# Altium integrated library 示波器.IntLib: 54 symbols
Pins are listed as number, name and electrical type; pins without a type are passive.

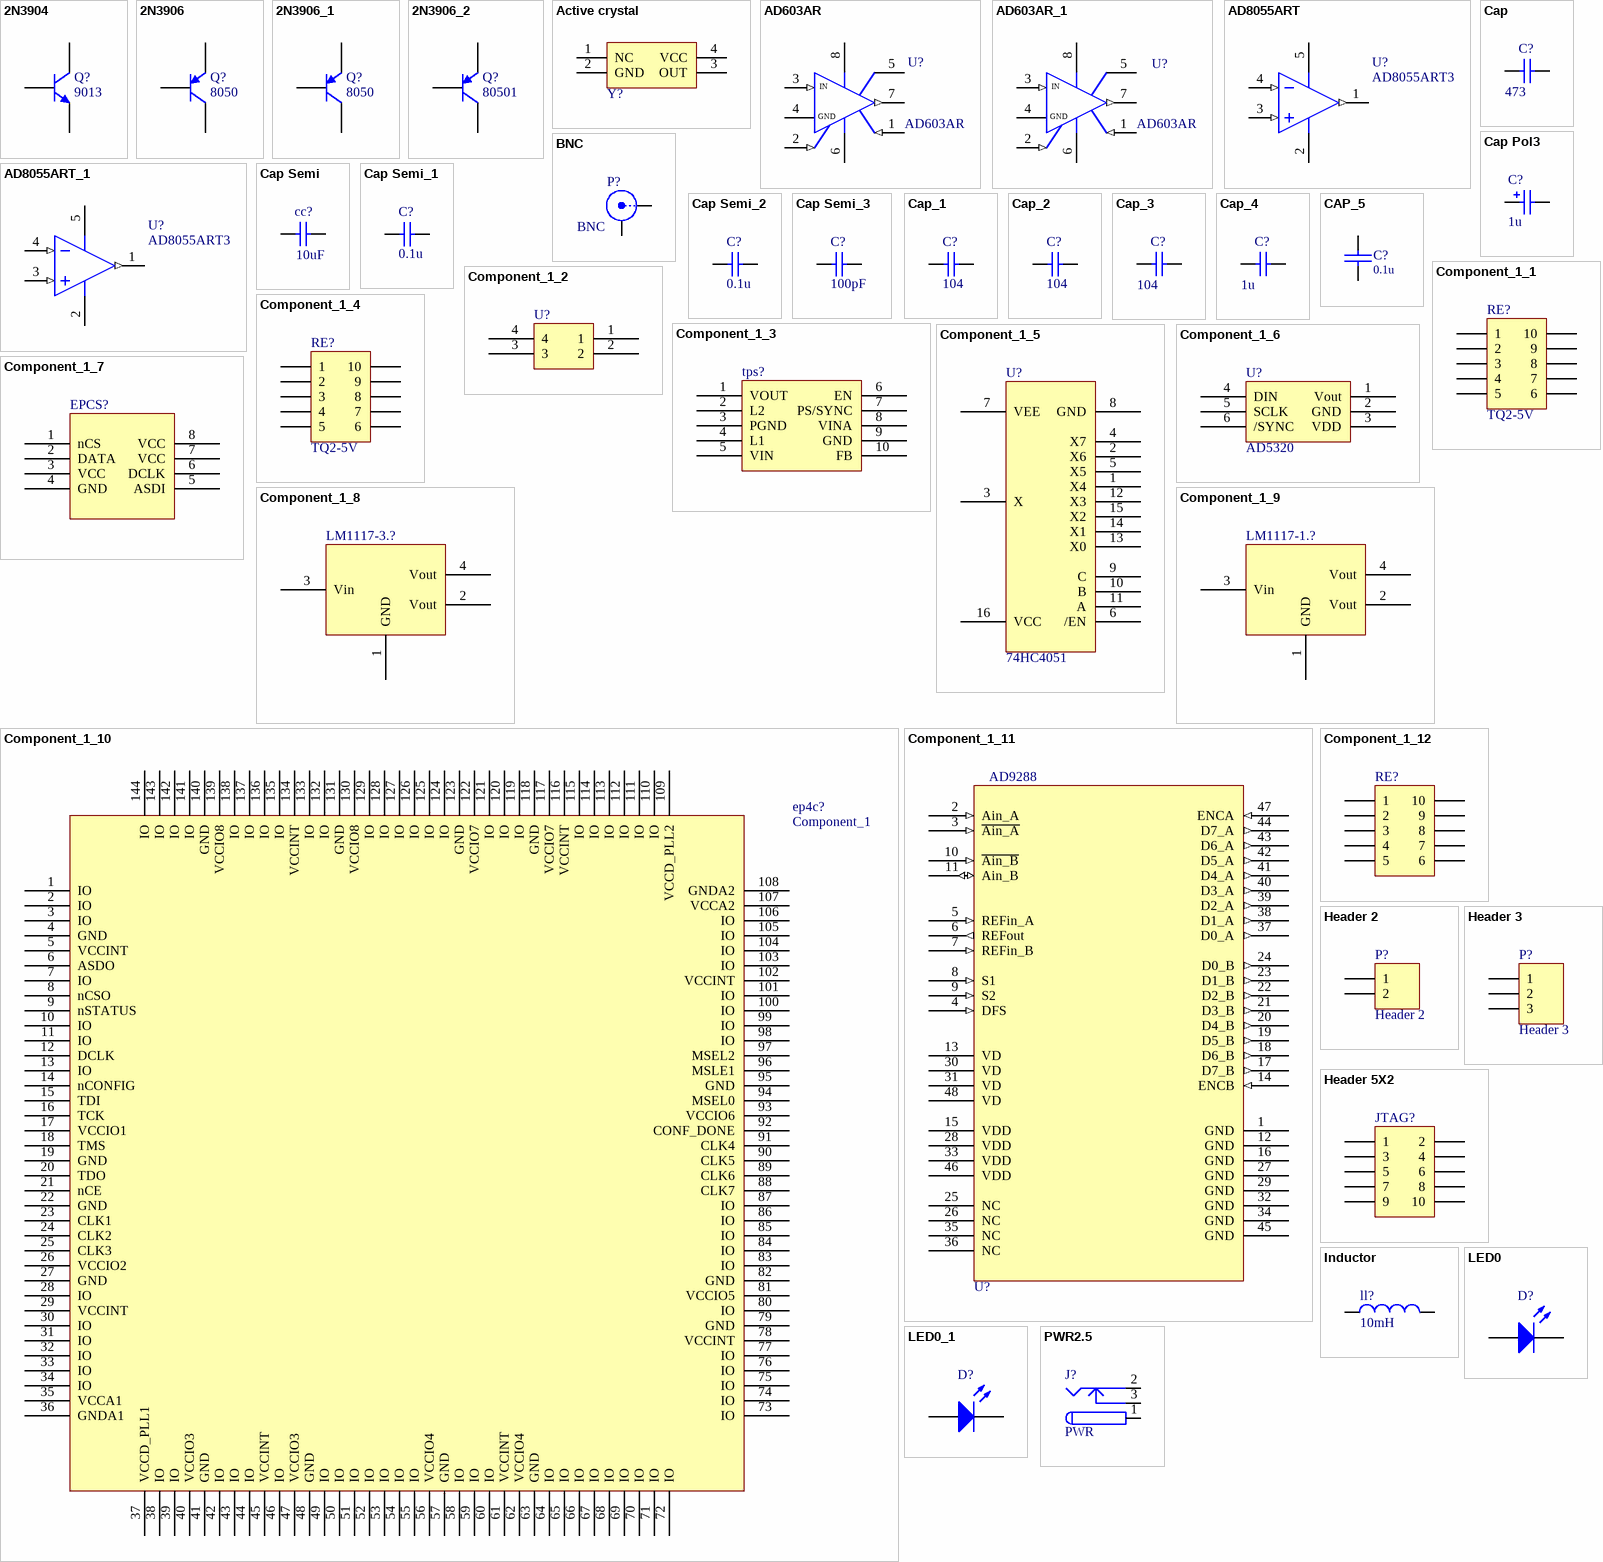
[diagram p0: symbols 2N3904 to PWR2.5]

## 2N3904
designator Q?, comment 9013
NPN General Purpose Amplifier; Published: 8-Jun-2000; LatestRevisionDate: 15-Jan-2003; LatestRevisionNote: PCB Footprint 'BCY-W3/D4.7' replaced; DatasheetDocument: 1997; PackageDocument: Sep-1998; PackageReference: TO-92A; Publisher: Altium Limited; Code_JEDEC: TO-92A; ComponentLink1Description: Manufacturer Link; ComponentLink1URL: http://www.fairchildsemi.com/; ComponentLink2Description: Datasheet; ComponentLink2URL: http://www.fairchildsemi.com/ds/2N%2F2N3904.pdf
footprint PCBComponent_1
footprint PCBComponent_1
pins: 1 E, 2 B, 3 C

## 2N3906
designator Q?, comment 8050
PNP General Purpose Amplifier; Published: 8-Jun-2000; LatestRevisionDate: 15-Jan-2003; LatestRevisionNote: PCB Footprint 'BCY-W3/D4.7' replaced; DatasheetDocument: 1997; PackageDocument: Sep-1998; PackageReference: TO-92A; Publisher: Altium Limited; Code_JEDEC: TO-92A; ComponentLink1Description: Manufacturer Link; ComponentLink1URL: http://www.fairchildsemi.com/; ComponentLink2Description: Datasheet; ComponentLink2URL: http://www.fairchildsemi.com/ds/2N%2F2N3906.pdf
simulation model 2N3906 (PNP)
signal-integrity model 2N3906
footprint PCBComponent_1
pins: 1 E, 2 B, 3 C

## 2N3906_1
designator Q?, comment 8050
PNP General Purpose Amplifier; Published: 8-Jun-2000; LatestRevisionDate: 15-Jan-2003; LatestRevisionNote: PCB Footprint 'BCY-W3/D4.7' replaced; DatasheetDocument: 1997; PackageDocument: Sep-1998; PackageReference: TO-92A; Publisher: Altium Limited; Code_JEDEC: TO-92A; ComponentLink1Description: Manufacturer Link; ComponentLink1URL: http://www.fairchildsemi.com/; ComponentLink2Description: Datasheet; ComponentLink2URL: http://www.fairchildsemi.com/ds/2N%2F2N3906.pdf
simulation model 2N3906 (PNP)
signal-integrity model 2N3906
footprint PCBComponent_1
pins: 1 E, 2 B, 3 C

## 2N3906_2
designator Q?, comment 80501
PNP General Purpose Amplifier; Published: 8-Jun-2000; LatestRevisionDate: 15-Jan-2003; LatestRevisionNote: PCB Footprint 'BCY-W3/D4.7' replaced; DatasheetDocument: 1997; PackageDocument: Sep-1998; PackageReference: TO-92A; Publisher: Altium Limited; Code_JEDEC: TO-92A; ComponentLink1Description: Manufacturer Link; ComponentLink1URL: http://www.fairchildsemi.com/; ComponentLink2Description: Datasheet; ComponentLink2URL: http://www.fairchildsemi.com/ds/2N%2F2N3906.pdf
simulation model 2N3906 (PNP)
signal-integrity model 2N3906
footprint PCBComponent_1
footprint PCBComponent_1
pins: 1 E, 2 B, 3 C

## Active crystal
designator Y?  (value not drawn)
footprint PCBComponent_1
pins: 1 NC, 2 GND, 3 OUT, 4 VCC

## AD603AR
designator U?
Low-Noise, 90MHz Variable Gain Amplifier; Text Field7: Published 8-Jun-2000, Modified 10-July-2000: SIM Model Added.
simulation model AD603A (SUBCKT)
footprint SOIC127P600X175-8N (SOIC, 8-Leads, Body 5.0x4.0mm (max), Pitch 1.27mm, IPC Medium Density)
pins: 1 G+ (in), 2 G- (in), 3 VINP (in), 4 COMM (power), 5 FDBK, 6 V- (power), 7 VOUT (out), 8 V+ (power)
text: IN; GND

## AD603AR_1
designator U?, comment AD603AR
Low-Noise, 90MHz Variable Gain Amplifier; Text Field7: Published 8-Jun-2000, Modified 10-July-2000: SIM Model Added.
footprint SOIC127P600X175-8N (SOIC, 8-Leads, Body 5.0x4.0mm (max), Pitch 1.27mm, IPC Medium Density)
pins: 1 G+ (in), 2 G- (in), 3 VINP (in), 4 COMM (power), 5 FDBK, 6 V- (power), 7 VOUT (out), 8 V+ (power)
text: IN; GND

## AD8055ART
designator U?, comment AD8055ART3
Low Cost, 300MHz Voltage Feedback Amplifier; Text Field7: Published 8-Jun-2000
footprint SOT95P245X110-5N (SOT23, 5-Leads, Body 3.0x2.6mm (max), Pitch 0.95mm, IPC Medium Density)
pins: 1 OUT (out), 2 V- (power), 3 IN+ (in), 4 IN- (in), 5 V+ (power)

## AD8055ART_1
designator U?, comment AD8055ART3
Low Cost, 300MHz Voltage Feedback Amplifier; Text Field7: Published 8-Jun-2000
footprint SOT95P245X110-5N (SOT23, 5-Leads, Body 3.0x2.6mm (max), Pitch 0.95mm, IPC Medium Density)
footprint SOT95P245X110-5N (SOT23, 5-Leads, Body 3.0x2.6mm (max), Pitch 0.95mm, IPC Medium Density)
pins: 1 OUT (out), 2 V- (power), 3 IN+ (in), 4 IN- (in), 5 V+ (power)

## BNC
designator P?
BNC Elbow Connector; LatestRevisionDate: 17-Jul-2002; LatestRevisionNote: Re-released for DXP Platform.; Publisher: Altium Limited
footprint BNC_RA CON (Connector; BNC Elbow)
signal-integrity model Connector
pins: 1 X, 2 Y

## Cap
designator C?  value 473
Capacitor; Published: 8-Jun-2000; LatestRevisionDate: 17-Jul-2002; LatestRevisionNote: Re-released for DXP Platform.; PackageReference: RAD-0.3; Publisher: Altium Limited
simulation model CAP (Capacitor)
signal-integrity model Cap
footprint PCBComponent_1
pins: 1, 2

## Cap Pol3
designator C?  value 1u
Polarized Capacitor (Surface Mount); Published: 8-Jun-2000; LatestRevisionDate: 17-Jul-2002; LatestRevisionNote: Re-released for DXP Platform.; PackageReference: C0805; Publisher: Altium Limited
footprint C0805 (Chip Capacitor; Body 2.0 x 1.2 mm (LxW typ))
footprint 1812 (Chip Capacitor; Body 4.5 x 3.2 mm (LxW typ))
footprint 1825 (Chip Capacitor; Body 4.5 x 6.4 mm (LxW typ))
footprint C2225 (Chip Capacitor; Body 5.6 x 6.4 mm (LxW typ))
footprint 2220 (Chip Capacitor; Body 5.7 x 5.0 mm (LxW typ))
simulation model CAP (Capacitor)
signal-integrity model Cap Pol
pins: 1, 2
1 alternate drawing of the same symbol

## Cap Semi
designator cc?  value 10uF
Capacitor (Semiconductor SIM Model); Published: 8-Jun-2000; LatestRevisionDate: 17-Jul-2002; LatestRevisionNote: Re-released for DXP Platform.; PackageReference: C1206; Publisher: Altium Limited
footprint C1206 (Chip Capacitor; Body 3.2 x 1.6 mm (LxW typ))
footprint 0402 (Chip Capacitor; Body 1.0 x 0.5 mm (LxW typ))
footprint 1310[0504] (Chip Capacitor; Body 1.2 x 1.0 mm (LxW typ))
footprint 1608[0603] (Chip Capacitor; Body 1.6 x 0.8 mm (LxW typ))
footprint C1210 (Chip Capacitor; Body 3.2 x 2.5 mm (LxW typ))
simulation model CAP (Semiconductor Capacitor)
signal-integrity model Cap Semi
pins: 1, 2

## Cap Semi_1
designator C?  value 0.1u
Capacitor (Semiconductor SIM Model); Published: 8-Jun-2000; LatestRevisionDate: 17-Jul-2002; LatestRevisionNote: Re-released for DXP Platform.; PackageReference: C1206; Publisher: Altium Limited
footprint PCBComponent_1
footprint PCBComponent_1
pins: 1, 2

## Cap Semi_2
designator C?  value 0.1u
Capacitor (Semiconductor SIM Model); Published: 8-Jun-2000; LatestRevisionDate: 17-Jul-2002; LatestRevisionNote: Re-released for DXP Platform.; PackageReference: C1206; Publisher: Altium Limited
footprint C1206 (Chip Capacitor; Body 3.2 x 1.6 mm (LxW typ))
footprint 0402 (Chip Capacitor; Body 1.0 x 0.5 mm (LxW typ))
footprint 1310[0504] (Chip Capacitor; Body 1.2 x 1.0 mm (LxW typ))
footprint 1608[0603] (Chip Capacitor; Body 1.6 x 0.8 mm (LxW typ))
footprint C1210 (Chip Capacitor; Body 3.2 x 2.5 mm (LxW typ))
simulation model CAP (Semiconductor Capacitor)
signal-integrity model Cap Semi
footprint 0805
footprint PCBComponent_1
footprint PCBComponent_1
footprint PCBComponent_1
pins: 1, 2

## Cap Semi_3
designator C?  value 100pF
Capacitor (Semiconductor SIM Model); Published: 8-Jun-2000; LatestRevisionDate: 17-Jul-2002; LatestRevisionNote: Re-released for DXP Platform.; PackageReference: C1206; Publisher: Altium Limited
footprint 1310[0504] (Chip Capacitor; Body 1.2 x 1.0 mm (LxW typ))
footprint 1608[0603] (Chip Capacitor; Body 1.6 x 0.8 mm (LxW typ))
footprint C1210 (Chip Capacitor; Body 3.2 x 2.5 mm (LxW typ))
simulation model CAP (Semiconductor Capacitor)
signal-integrity model Cap Semi
footprint PCBComponent_1
pins: 1, 2

## Cap_1
designator C?  value 104
Capacitor; Published: 8-Jun-2000; LatestRevisionDate: 17-Jul-2002; LatestRevisionNote: Re-released for DXP Platform.; PackageReference: RAD-0.3; Publisher: Altium Limited
footprint RAD-0.3 (Capacitor; 2 Leads)
footprint VP45-3.2 (Capacitor, Ceramic, Thru-Hole, Dipped Radial; Body 7.8 x 3.2 mm (WxT) Pin Spacing 5.08 mm (typ))
simulation model CAP (Capacitor)
signal-integrity model Cap
footprint PCBComponent_1
pins: 1, 2

## Cap_2
designator C?, comment 104
Capacitor; Published: 8-Jun-2000; LatestRevisionDate: 17-Jul-2002; LatestRevisionNote: Re-released for DXP Platform.; PackageReference: RAD-0.3; Publisher: Altium Limited
simulation model CAP (Capacitor)
signal-integrity model Cap
footprint PCBComponent_1
footprint PCBComponent_1
pins: 1, 2

## Cap_3
designator C?  value 104
Capacitor; Published: 8-Jun-2000; LatestRevisionDate: 17-Jul-2002; LatestRevisionNote: Re-released for DXP Platform.; PackageReference: RAD-0.3; Publisher: Altium Limited
simulation model CAP (Capacitor)
signal-integrity model Cap
footprint PCBComponent_1
pins: 1, 2

## Cap_4
designator C?  value 1u
Capacitor; Published: 8-Jun-2000; LatestRevisionDate: 17-Jul-2002; LatestRevisionNote: Re-released for DXP Platform.; PackageReference: RAD-0.3; Publisher: Altium Limited
footprint RAD-0.3 (Capacitor; 2 Leads)
footprint VP32-3.2 (Capacitor, Ceramic, Thru-Hole, Dipped Radial; Body 5.1 x 3.2 mm (WxT) Pin Spacing 2.54 mm (typ))
footprint VP45-3.2 (Capacitor, Ceramic, Thru-Hole, Dipped Radial; Body 7.8 x 3.2 mm (WxT) Pin Spacing 5.08 mm (typ))
simulation model CAP (Capacitor)
signal-integrity model Cap
footprint PCBComponent_1
pins: 1, 2

## CAP_5
designator C?, comment 0.1u
Capacitor
footprint 0603
footprint 0603C
footprint 0805
footprint PCBComponent_1
pins: 1, 2

## Component_1_1
designator RE?, comment TQ2-5V
footprint PCBComponent_1 (Footprint not found)
footprint PCBComponent_1
pins: 1, 2, 3, 4, 5, 6, 7, 8, 9, 10

## Component_1_2
designator U?
footprint SOP254P610X218-4N (SOP, 4-Leads, Body 4.3x3.9mm (max), Pitch 2.54mm, IPC Medium Density)
pins: 1, 2, 3, 4

## Component_1_3
designator tps?
footprint QFN50P300X300X100-10M (QFN, 10-Leads, Body 3.1x3.1mm (max), Pitch 0.50mm, IPC Low Density)
pins: 1 VOUT, 2 L2, 3 PGND, 4 L1, 5 VIN, 6 EN, 7 PS/SYNC, 8 VINA, 9 GND, 10 FB

## Component_1_4
designator RE?, comment TQ2-5V
footprint PCBComponent_1 (Footprint not found)
footprint PCBComponent_1
footprint PCBComponent_1
pins: 1, 2, 3, 4, 5, 6, 7, 8, 9, 10

## Component_1_5
designator U?, comment 74HC4051
footprint SOP127P600X175-16N (SOP, 16-Leads, Body 10.0x8.9mm (max), Pitch 1.27mm, IPC Medium Density)
pins: 1 X4, 2 X6, 3 X, 4 X7, 5 X5, 6 /EN, 7 VEE, 8 GND, 9 C, 10 B, 11 A, 12 X3, 13 X0, 14 X1, 15 X2, 16 VCC

## Component_1_6
designator U?, comment AD5320
footprint SOT86P280X110-6N (SOT23, 6-Leads, Body 3.0x2.8mm (max), Pitch 0.86mm, IPC Medium Density)
pins: 1 Vout, 2 GND, 3 VDD, 4 DIN, 5 SCLK, 6 /SYNC

## Component_1_7
designator EPCS?
footprint PCBComponent_1
pins: 1 nCS, 2 DATA, 3 VCC, 4 GND, 5 ASDI, 6 DCLK, 7 VCC, 8 VCC

## Component_1_8
designator LM1117-3.?
footprint PCBComponent_1
footprint PCBComponent_1
pins: 1 GND, 2 Vout, 3 Vin, 4 Vout

## Component_1_9
designator LM1117-1.?
footprint PCBComponent_1
pins: 1 GND, 2 Vout, 3 Vin, 4 Vout

## Component_1_10
designator ep4c?, comment Component_1
footprint PCBComponent_1
pins: 1 IO, 2 IO, 3 IO, 4 GND, 5 VCCINT, 6 ASDO, 7 IO, 8 nCSO, 9 nSTATUS, 10 IO, 11 IO, 12 DCLK, 13 IO, 14 nCONFIG, 15 TDI, 16 TCK, 17 VCCIO1, 18 TMS, 19 GND, 20 TDO, 21 nCE, 22 GND, 23 CLK1, 24 CLK2, 25 CLK3, 26 VCCIO2, 27 GND, 28 IO, 29 VCCINT, 30 IO, 31 IO, 32 IO, 33 IO, 34 IO, 35 VCCA1, 36 GNDA1, 37 VCCD_PLL1, 38 IO, 39 IO, 40 VCCIO3, 41 GND, 42 IO, 43 IO, 44 IO, 45 VCCINT, 46 IO, 47 VCCIO3, 48 GND, 49 IO, 50 IO, 51 IO, 52 IO, 53 IO, 54 IO, 55 IO, 56 VCCIO4, 57 GND, 58 IO, 59 IO, 60 IO, 61 VCCINT, 62 VCCIO4, 63 GND, 64 IO, 65 IO, 66 IO, 67 IO, 68 IO, 69 IO, 70 IO, 71 IO, 72 IO, 73 IO, 74 IO, 75 IO, 76 IO, 77 IO, 78 VCCINT, 79 GND, 80 IO, 81 VCCIO5, 82 GND, 83 IO, 84 IO, 85 IO, 86 IO, 87 IO, 88 CLK7, 89 CLK6, 90 CLK5, 91 CLK4, 92 CONF_DONE, 93 VCCIO6, 94 MSEL0, 95 GND, 96 MSLE1, 97 MSEL2, 98 IO, 99 IO, 100 IO, 101 IO, 102 VCCINT, 103 IO, 104 IO, 105 IO, 106 IO, 107 VCCA2, 108 GNDA2, 109 VCCD_PLL2, 110 IO, 111 IO, 112 IO, 113 IO, 114 IO, 115 IO, 116 VCCINT, 117 VCCIO7, 118 GND, 119 IO, 120 IO, 121 IO, 122 VCCIO7, 123 GND, 124 IO, 125 IO, 126 IO, 127 IO, 128 IO, 129 IO, 130 VCCIO8, 131 GND, 132 IO, 133 IO, 134 VCCINT, 135 IO, 136 IO, 137 IO, 138 IO, 139 VCCIO8, 140 GND, 141 IO, 142 IO, 143 IO, 144 IO

## Component_1_11
designator U?
footprint TSQFP50P900X900X160-48N (TSQFP, 48-Leads, Body 9.0x9.0mm (max), Pitch 0.50mm, IPC Medium Density)
pins: 1 GND, 2 Ain_A (in), 3 ~{Ain_A} (in), 4 DFS (in), 5 REFin_A (in), 6 REFout (out), 7 REFin_B (in), 8 S1 (in), 9 S2 (in), 10 ~{Ain_B} (in), 11 Ain_B (io), 12 GND, 13 VD, 14 ENCB (in), 15 VDD, 16 GND, 17 D7_B (out), 18 D6_B (out), 19 D5_B (out), 20 D4_B (out), 21 D3_B (out), 22 D2_B (out), 23 D1_B (out), 24 D0_B (out), 25 NC, 26 NC, 27 GND, 28 VDD, 29 GND, 30 VD, 31 VD, 32 GND, 33 VDD, 34 GND, 35 NC, 36 NC, 37 D0_A (out), 38 D1_A (out), 39 D2_A (out), 40 D3_A (out), 41 D4_A (out), 42 D5_A (out), 43 D6_A (out), 44 D7_A (out), 45 GND, 46 VDD, 47 ENCA (in), 48 VD
text: AD9288

## Component_1_12
designator RE?
footprint PCBComponent_1
pins: 1, 2, 3, 4, 5, 6, 7, 8, 9, 10

## Header 2
designator P?
Header, 2-Pin; LatestRevisionDate: 17-Jul-2002; LatestRevisionNote: Re-released for DXP Platform.; Publisher: Altium Limited
footprint HDR1X2 (Connector; Header; 2 Position)
signal-integrity model Connector
pins: 1, 2

## Header 3
designator P?
Header, 3-Pin; LatestRevisionDate: 17-Jul-2002; LatestRevisionNote: Re-released for DXP Platform.; Publisher: Altium Limited
footprint HDR1X3 (Connector; Header; 3 Position)
signal-integrity model Connector
pins: 1, 2, 3

## Header 5X2
designator JTAG?
Header, 5-Pin, Dual row; LatestRevisionDate: 17-Jul-2002; LatestRevisionNote: Re-released for DXP Platform.; Publisher: Altium Limited
footprint HDR2X5 (Connector; Header; 5x2 Position)
signal-integrity model Connector
pins: 1, 2, 3, 4, 5, 6, 7, 8, 9, 10

## Inductor
designator ll?  value 10mH
Inductor; Code_IEC: 1005; Published: 8-Jun-2000; LatestRevisionDate: 17-Jul-2002; LatestRevisionNote: Re-released for DXP Platform.; PackageReference: 0402-A; Publisher: Altium Limited; Code_JEITA: 0402
footprint 0402-A (Chip Inductor; Body 1 x 0.5 mm (LxW typ))
footprint L0603 (Chip Inductor; Body 1.6 x 0.8 mm (LxW typ))
footprint 2012_Chip (2012 Chip; Chip Inductor; Body 2.0 x 1.2 mm (LxW typ))
footprint 2029 (Chip Inductor; Body 2 x 1.2 mm (LxW typ))
footprint 3261 (3216 Chip; Chip Inductor; Body 3.2 x 1.6 mm (LxW typ))
footprint 4564_Chip (4564 Chip; Chip Inductor; Body 4.5 x 6.4 mm (LxW typ))
simulation model INDUCTOR (Inductor)
signal-integrity model Inductor
pins: 1, 2

## LED0
designator D?  (value not drawn)
Typical INFRARED GaAs LED; Published: 8-Jun-2000; LatestRevisionDate: 08-Jul-2005; LatestRevisionNote: Mech Layer 1 removed.; PackageReference: LED-0; Publisher: Altium Limited
footprint 0805
simulation model LED0 (Diode)
footprint PCBComponent_1
pins: 1 A, 2 K

## LED0_1
designator D?, comment LED0  (value not drawn)
Typical INFRARED GaAs LED; Published: 8-Jun-2000; LatestRevisionDate: 08-Jul-2005; LatestRevisionNote: Mech Layer 1 removed.; PackageReference: LED-0; Publisher: Altium Limited
footprint 0805
simulation model LED0 (Diode)
footprint PCBComponent_1
footprint PCBComponent_1
pins: 1 A, 2 K

## PWR2.5
designator J?, comment PWR
Low Voltage Power Supply Connector; Published: 17-Dec-2003; DatasheetDocument: 09-May-2002; Publisher: Altium Limited; ComponentLink1Description: Manufacturer Link; ComponentLink1URL: http://domino.kycon.com/internet/Products.html
footprint KLD-0202 (DC Power Jack, 2.5mm, KLD Series, PCB Mount)
signal-integrity model Connector
pins: 1 (power), 1A (power), 1B (power), 2 (power), 2A (power), 2B (power), 3 (power), 3A (power), 3B (power)

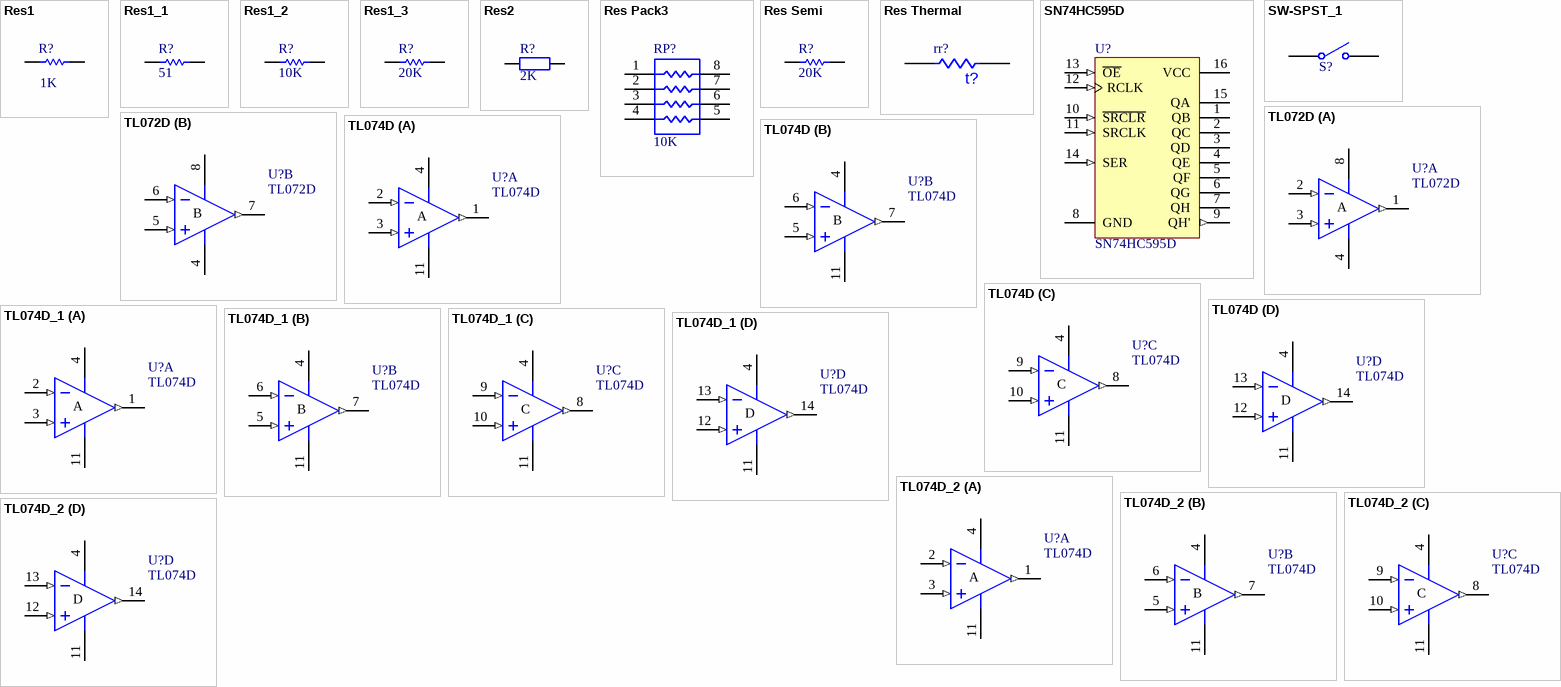
[diagram p1: symbols Res1 to TL074D_2]

## Res1
designator R?  value 1K
Resistor; Published: 8-Jun-2000; LatestRevisionDate: 17-Jul-2002; LatestRevisionNote: Re-released for DXP Platform.; PackageReference: AXIAL-0.3; Publisher: Altium Limited
simulation model RESISTOR (Resistor)
signal-integrity model Res
footprint PCBComponent_1
pins: 1, 2

## Res1_1
designator R?  value 51
Resistor; Published: 8-Jun-2000; LatestRevisionDate: 17-Jul-2002; LatestRevisionNote: Re-released for DXP Platform.; PackageReference: AXIAL-0.3; Publisher: Altium Limited
footprint AXIAL-0.3 (Resistor; 2 Leads)
simulation model RESISTOR (Resistor)
signal-integrity model Res
footprint PCBComponent_1
pins: 1, 2

## Res1_2
designator R?  value 10K
Resistor; Published: 8-Jun-2000; LatestRevisionDate: 17-Jul-2002; LatestRevisionNote: Re-released for DXP Platform.; PackageReference: AXIAL-0.3; Publisher: Altium Limited
simulation model RESISTOR (Resistor)
signal-integrity model Res
footprint PCBComponent_1
pins: 1, 2

## Res1_3
designator R?  value 20K
Resistor; Published: 8-Jun-2000; LatestRevisionDate: 17-Jul-2002; LatestRevisionNote: Re-released for DXP Platform.; PackageReference: AXIAL-0.3; Publisher: Altium Limited
footprint AXIAL-0.3 (Resistor; 2 Leads)
simulation model RESISTOR (Resistor)
signal-integrity model Res
footprint PCBComponent_1
pins: 1, 2

## Res2
designator R?  value 2K  (hidden comment: Res2)
Resistor; Published: 8-Jun-2000; LatestRevisionDate: 17-Jul-2002; LatestRevisionNote: Re-released for DXP Platform.; PackageReference: AXIAL-0.4; Publisher: Altium Limited
footprint 0805
simulation model RESISTOR (Resistor)
signal-integrity model Res
footprint PCBComponent_1
pins: 1, 2

## Res Pack3
designator RP?, comment value 10K  (hidden comment: Res Pack)
Isolated Resistor Network; Published: 24-Mar-1999; LatestRevisionDate: 17-Jul-2002; LatestRevisionNote: Re-released for DXP Platform.; PackageReference: SO-8; Publisher: Altium Limited
footprint SO-8
footprint PCBComponent_1
pins: 1, 2, 3, 4, 5, 6, 7, 8
2 alternate drawings of the same symbol

## Res Semi
designator R?  value 20K
Semiconductor Resistor; Published: 8-Jun-2000; LatestRevisionDate: 17-Jul-2002; LatestRevisionNote: Re-released for DXP Platform.; PackageReference: AXIAL-0.5; Publisher: Altium Limited
footprint AXIAL-0.5 (Semiconductor Resistor; 2 Leads)
footprint 1005[0402] (Chip Resistor; Body 1.1 x 0.5 mm (LxW typ))
footprint 1608[0603] (Chip Resistor; Body 1.6 x 0.8 mm (LxW typ))
footprint 2012[0805] (Chip Resistor; Body 2.0 x 1.3 mm (LxW typ))
footprint 3216[1206] (Chip Resistor; Body 3.2 x 1.6 mm (LxW typ))
simulation model RES (Semiconductor Resistor)
signal-integrity model Res Semi
pins: 1, 2

## Res Thermal
designator rr?
Thermistor; Published: 24-Mar-1999; LatestRevisionDate: 04-Mar-2005; LatestRevisionNote: PCB Footprint replaced.; PackageReference: 6-0805; Publisher: Altium Limited
footprint 6-0805 (Chip Resistor; Body 2.0 x 1.3 mm (LxW typ))
pins: 1, 2
text: t?

## SN74HC595D
designator U?
8-Bit Shift Register with 3-State Output Registers; Published: 8-Jun-2000; LatestRevisionDate: 13-Apr-2006; LatestRevisionNote: IPC-7351 Footprint Added.; DatasheetVersion: May-1997; PackageVersion: Jan-1998; PackageReference: D016; Publisher: Altium Limited; PackageDescription: 16-Pin Small Outline Integrated Circuit 1.27 mm Pitch; Code_IPC: SOIC127P600-16; ComponentLink1Description: Manufacturer Link; ComponentLink1URL: http://www.ti.com/; ComponentLink2Description: Datasheet; ComponentLink2URL: http://www-s.ti.com/sc/ds/sn74hc595.pdf
footprint D016_N (SOIC, 16-Leads, Body 9.9x3.9mm, Pitch 1.27mm, IPC Medium Density)
footprint D016_L (SOIC, 16-Leads, Body 9.9x3.9mm, Pitch 1.27mm, IPC High Density)
footprint D016_M (SOIC, 16-Leads, Body 9.9x3.9mm, Pitch 1.27mm, IPC Low Density)
3D model D016 (16-Pin Small Outline Integrated Circuit 1.27 mm Pitch)
signal-integrity model SN74HC595D
footprint SOP127P600X175-16N (SOP, 16-Leads, Body 10.0x8.9mm (max), Pitch 1.27mm, IPC Medium Density)
pins: 1 QB (hiz), 2 QC (hiz), 3 QD (hiz), 4 QE (hiz), 5 QF (hiz), 6 QG (hiz), 7 QH (hiz), 8 GND (power), 9 QH' (out), 10 ~{SRCLR} (in), 11 SRCLK (in), 12 RCLK (in), 13 ~{OE} (in), 14 SER (in), 15 QA (hiz), 16 VCC (power)

## SW-SPST_1
designator S?, comment SW-SPST  (value not drawn)
Single-Pole, Single-Throw Switch; Published: 24-Mar-1999; LatestRevisionDate: 17-Jul-2002; LatestRevisionNote: Re-released for DXP Platform.; PackageReference: SPST-2; Publisher: Altium Limited
footprint PCBComponent_1
pins: 1 COMMON, 2 NO

## TL072D
designator U?
Low-Noise JFET-Input Operational Amplifier; Published: 16-Jan-2001; LatestRevisionDate: 13-Apr-2006; LatestRevisionNote: IPC-7351 Footprint Added.; DatasheetVersion: Aug-1996; PackageVersion: Jan-1998; PackageReference: D008; Publisher: Altium Limited; PackageDescription: 8-Pin Small Outline Integrated Circuit 1.27 mm Pitch; Code_IPC: SOIC127P600-8; ComponentLink1Description: Manufacturer Link; ComponentLink1URL: http://www.ti.com/; ComponentLink2Description: Datasheet; ComponentLink2URL: http://www-s.ti.com/sc/ds/tl072.pdf
footprint D008_L (SOIC, 8-Leads, Body 4.9x3.9mm, Pitch 1.27mm, IPC High Density)
footprint D008_M (SOIC, 8-Leads, Body 4.9x3.9mm, Pitch 1.27mm, IPC Low Density)
footprint D008_M (SOIC, 8-Leads, Body 4.9x3.9mm, Pitch 1.27mm, IPC Low Density)
3D model D008 (8-Pin Small Outline Integrated Circuit 1.27 mm Pitch)
simulation model TL072 (SUBCKT)
footprint SOP127P600X175-8N (SOP, 8-Leads, Body 4.9x3.9mm (max), Pitch 1.27mm, IPC Medium Density)
pins on every part: 4 V- (power), 8 V+ (power)
part A pins: 1 OUT (out), 2 IN- (in), 3 IN+ (in)
part B pins: 5 IN+ (in), 6 IN- (in), 7 OUT (out)
part A text: A
part B text: B

## TL074D
designator U?
Low-Noise JFET-Input Operational Amplifier; Published: 16-Jan-2001; LatestRevisionDate: 13-Apr-2006; LatestRevisionNote: IPC-7351 Footprint Added.; DatasheetVersion: Aug-1996; PackageVersion: Jan-1998; PackageReference: D014; Publisher: Altium Limited; PackageDescription: 14-Pin Small Outline Integrated Circuit 1.27 mm Pitch; Code_IPC: SOIC127P600-14; ComponentLink1Description: Manufacturer Link; ComponentLink1URL: http://www.ti.com/; ComponentLink2Description: Datasheet; ComponentLink2URL: http://www-s.ti.com/sc/ds/tl074.pdf
3D model D014 (14-Pin Small Outline Integrated Circuit 1.27 mm Pitch)
simulation model TL074 (SUBCKT)
footprint SOP127P600X175-14N (SOP, 14-Leads, Body 8.6x7.1mm (max), Pitch 1.27mm, IPC Medium Density)
footprint SOP127P600X175-14N (SOP, 14-Leads, Body 8.6x7.1mm (max), Pitch 1.27mm, IPC Medium Density)
pins on every part: 4 V+ (power), 11 V- (power)
part A pins: 1 OUT (out), 2 IN- (in), 3 IN+ (in)
part B pins: 5 IN+ (in), 6 IN- (in), 7 OUT (out)
part C pins: 8 OUT (out), 9 IN- (in), 10 IN+ (in)
part D pins: 12 IN+ (in), 13 IN- (in), 14 OUT (out)
part A text: A
part B text: B
part C text: C
part D text: D

## TL074D_1
designator U?, comment TL074D
Low-Noise JFET-Input Operational Amplifier; Published: 16-Jan-2001; LatestRevisionDate: 13-Apr-2006; LatestRevisionNote: IPC-7351 Footprint Added.; DatasheetVersion: Aug-1996; PackageVersion: Jan-1998; PackageReference: D014; Publisher: Altium Limited; PackageDescription: 14-Pin Small Outline Integrated Circuit 1.27 mm Pitch; Code_IPC: SOIC127P600-14; ComponentLink1Description: Manufacturer Link; ComponentLink1URL: http://www.ti.com/; ComponentLink2Description: Datasheet; ComponentLink2URL: http://www-s.ti.com/sc/ds/tl074.pdf
3D model D014 (14-Pin Small Outline Integrated Circuit 1.27 mm Pitch)
simulation model TL074 (SUBCKT)
footprint SOP127P600X175-14N (SOP, 14-Leads, Body 8.6x7.1mm (max), Pitch 1.27mm, IPC Medium Density)
pins on every part: 4 V+ (power), 11 V- (power)
part A pins: 1 OUT (out), 2 IN- (in), 3 IN+ (in)
part B pins: 5 IN+ (in), 6 IN- (in), 7 OUT (out)
part C pins: 8 OUT (out), 9 IN- (in), 10 IN+ (in)
part D pins: 12 IN+ (in), 13 IN- (in), 14 OUT (out)
part A text: A
part B text: B
part C text: C
part D text: D

## TL074D_2
designator U?, comment TL074D
Low-Noise JFET-Input Operational Amplifier; Published: 16-Jan-2001; LatestRevisionDate: 13-Apr-2006; LatestRevisionNote: IPC-7351 Footprint Added.; DatasheetVersion: Aug-1996; PackageVersion: Jan-1998; PackageReference: D014; Publisher: Altium Limited; PackageDescription: 14-Pin Small Outline Integrated Circuit 1.27 mm Pitch; Code_IPC: SOIC127P600-14; ComponentLink1Description: Manufacturer Link; ComponentLink1URL: http://www.ti.com/; ComponentLink2Description: Datasheet; ComponentLink2URL: http://www-s.ti.com/sc/ds/tl074.pdf
footprint D014_N (SOIC, 14-Leads, Body 8.7x3.9mm, Pitch 1.27mm, IPC Medium Density)
footprint D014_L (SOIC, 14-Leads, Body 8.7x3.9mm, Pitch 1.27mm, IPC High Density)
footprint D014_M (SOIC, 14-Leads, Body 8.7x3.9mm, Pitch 1.27mm, IPC Low Density)
3D model D014 (14-Pin Small Outline Integrated Circuit 1.27 mm Pitch)
simulation model TL074 (SUBCKT)
footprint SOP127P600X175-14N (SOP, 14-Leads, Body 8.6x7.1mm (max), Pitch 1.27mm, IPC Medium Density)
pins on every part: 4 V+ (power), 11 V- (power)
part A pins: 1 OUT (out), 2 IN- (in), 3 IN+ (in)
part B pins: 5 IN+ (in), 6 IN- (in), 7 OUT (out)
part C pins: 8 OUT (out), 9 IN- (in), 10 IN+ (in)
part D pins: 12 IN+ (in), 13 IN- (in), 14 OUT (out)
part A text: A
part B text: B
part C text: C
part D text: D